# Altium schematic symbol library Planck-Pi-DK.SCHLIB: 40 symbols
Pins are listed as number, name and electrical type; pins without a type are passive.

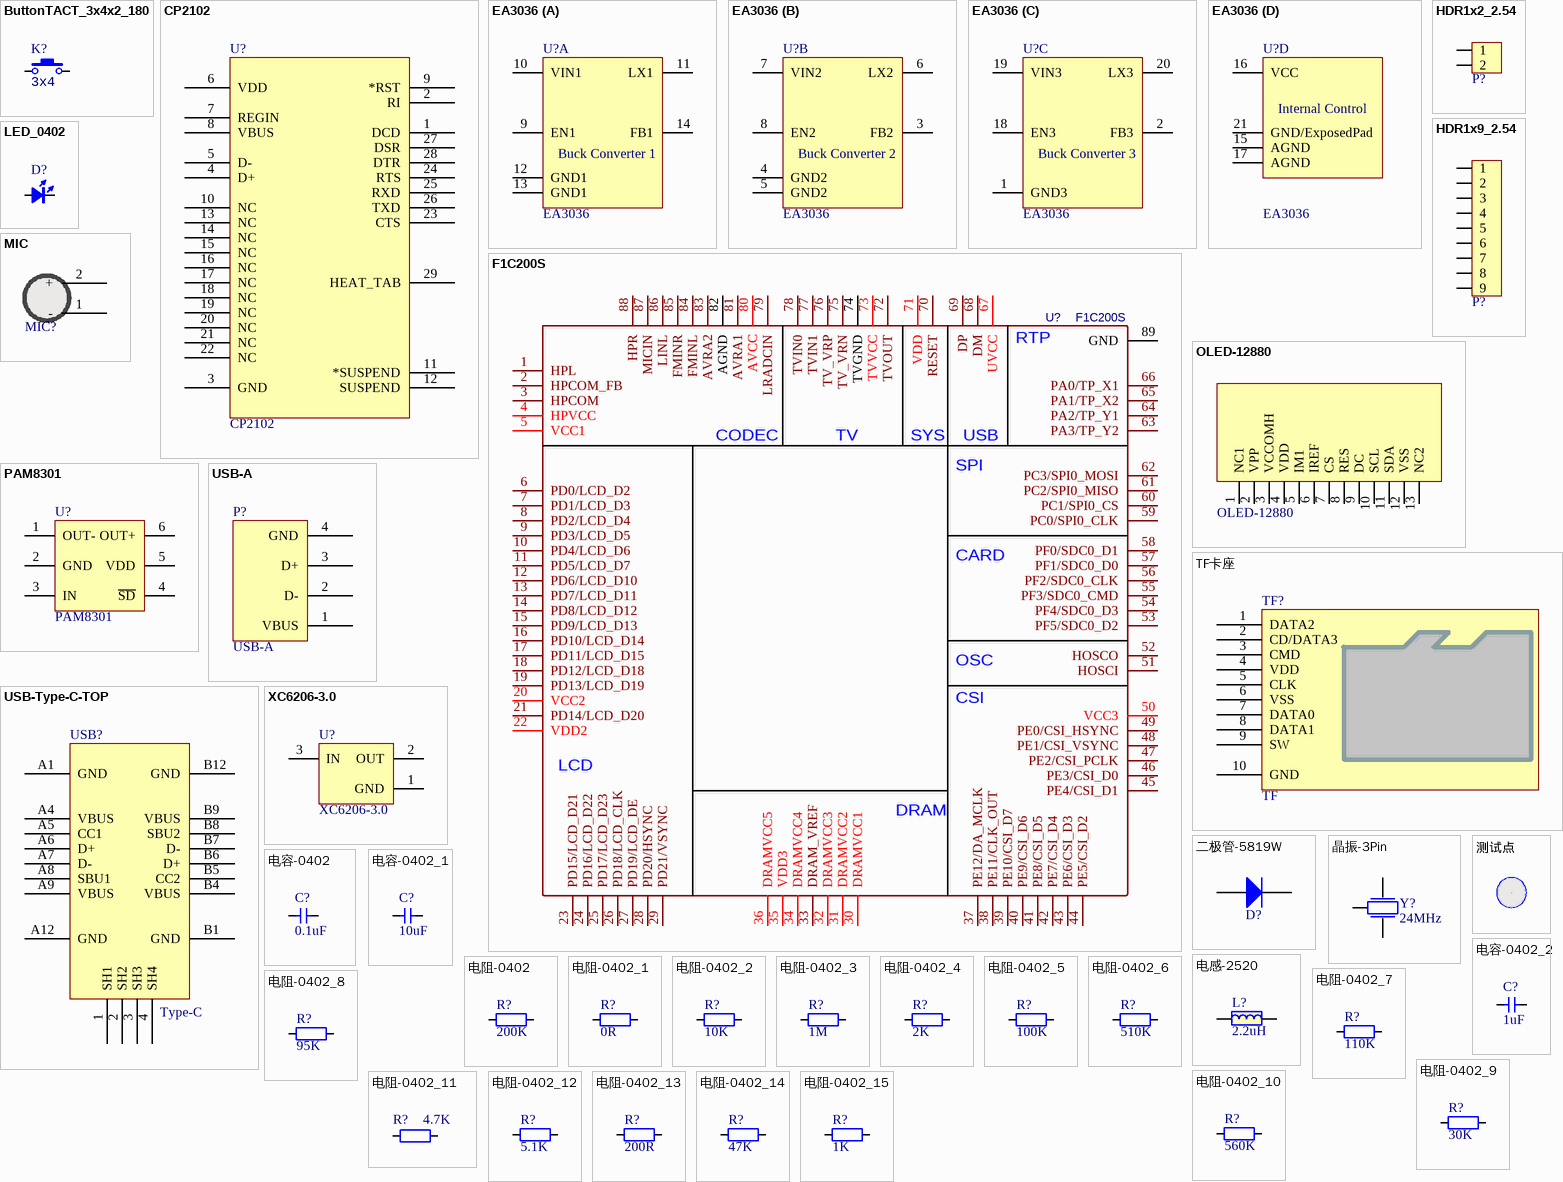
[diagram p0: symbols ButtonTACT_3x4x2_180 to 电阻-0402_15]

## ButtonTACT_3x4x2_180
designator K?, comment value 3x4  (hidden comment: TACT 2P)
Button; type: TACT 2P
footprint ButtonTACT_3x4x2_180
footprint ButtonTACT_3x4x2_180H
pins: 1, 2

## CP2102
designator U?
USB转TTL; PART DESC: SINGLE-CHIP USB TO UART BRIDGE, QFN28, RoHS.; MFG #1: SILICON LABS; PART NUMBER: CP2102; Value: Value; RefDes: RefDes; Type: DEV
footprint QFN-28
pins: 1 DCD, 2 RI, 3 GND, 4 D+, 5 D-, 6 VDD, 7 REGIN, 8 VBUS, 9 *RST, 10 NC, 11 *SUSPEND, 12 SUSPEND, 13 NC, 14 NC, 15 NC, 16 NC, 17 NC, 18 NC, 19 NC, 20 NC, 21 NC, 22 NC, 23 CTS, 24 RTS, 25 RXD, 26 TXD, 27 DSR, 28 DTR, 29 HEAT_TAB

## EA3036
designator U?
EA3036 is a 3CH power management IC for applications powered by one Li-Ion battery or a DC 5V adapter.
footprint QFN-20 (QFN, 20-Leads, Body 3.00x3.00mm, Pitch 0.40mm, Thermal Pad 1.65x1.65mm, IPC Medium Density)
part A pins: 9 EN1 "CH1 turns on/turns off control input. Don’t leave this pin floating.", 10 VIN1 (power) "Power input pin of CH1. Recommended to use a 10uF MLCC capacitor between VIN1 pin and GND1 pin.", 11 LX1 "Internal MOSFET switching output of CH1. Connect LX1 pin with a low pass filter circuit to obtain a stable DC output voltage.", 12 GND1 (power) "Power ground pin of CH1.", 13 GND1 (power) "Power ground pin of CH1.", 14 FB1 "Feedback input of CH1. Connect to output voltage with a resistor divider."
part B pins: 3 FB2 "Feedback input of CH2. Connect to output voltage with a resistor divider.", 4 GND2 (power) "Power ground pin of CH2.", 5 GND2 (power) "Power ground pin of CH2.", 6 LX2 "Internal MOSFET switching output of CH2. Connect LX2 pin with a low pass filter circuit to obtain a stable DC output voltage.", 7 VIN2 (power) "Power input pin of CH2. Recommended to use a 10uF MLCC capacitor between VIN2 pin and GND2 pin.", 8 EN2 "CH2 turns on/turns off control input. Don’t leave this pin floating."
part C pins: 1 GND3 (power) "Power ground pin of CH3.", 2 FB3 "Feedback input of CH3. Connect to output voltage with a resistor divider.", 18 EN3 "CH3 turns on/turns off control input. Don’t leave this pin floating.", 19 VIN3 (power) "Power input pin of CH3. Recommended to use a 10uF MLCC capacitor between VIN3 pin and GND3 pin.", 20 LX3 "Internal MOSFET switching output of CH3. Connect SW3 pin with a low pass filter circuit to obtain a stable DC output voltage."
part D pins: 15 AGND (power) "Analog ground pin.", 16 VCC (power) "Input supply pin for internal control circuit.", 17 AGND (power) "Analog ground pin.", 21 GND/ExposedPad (power) "The Exposed Pad must be soldered to a large PCB copper plane and connected to GND for appropriate dissipation."
part A text: Buck Converter 1
part B text: Buck Converter 2
part C text: Buck Converter 3
part D text: Internal Control

## F1C200S
designator U?
BOM_Manufacturer: Allwinner; Contributor: ChrisLan2018; BOM_Supplier: Allwinner; spicePre: U; spiceSymbolName: F1C200S
footprint QFN-88-0.4MM (QFN, 88-Leads, Body 10.00x10.00mm, Pitch 0.40mm, Thermal Pad 6.74x6.74mm, IPC Medium Density)
pins: 1 HPL, 2 HPCOM_FB, 3 HPCOM, 4 HPVCC, 5 VCC1, 6 PD0/LCD_D2, 7 PD1/LCD_D3, 8 PD2/LCD_D4, 9 PD3/LCD_D5, 10 PD4/LCD_D6, 11 PD5/LCD_D7, 12 PD6/LCD_D10, 13 PD7/LCD_D11, 14 PD8/LCD_D12, 15 PD9/LCD_D13, 16 PD10/LCD_D14, 17 PD11/LCD_D15, 18 PD12/LCD_D18, 19 PD13/LCD_D19, 20 VCC2, 21 PD14/LCD_D20, 22 VDD2, 23 PD15/LCD_D21, 24 PD16/LCD_D22, 25 PD17/LCD_D23, 26 PD18/LCD_CLK, 27 PD19/LCD_DE, 28 PD20/HSYNC, 29 PD21/VSYNC, 30 DRAMVCC1, 31 DRAMVCC2, 32 DRAMVCC3, 33 DRAM_VREF, 34 DRAMVCC4, 35 VDD3, 36 DRAMVCC5, 37 PE12/DA_MCLK, 38 PE11/CLK_OUT, 39 PE10/CSI_D7, 40 PE9/CSI_D6, 41 PE8/CSI_D5, 42 PE7/CSI_D4, 43 PE6/CSI_D3, 44 PE5/CSI_D2, 45 PE4/CSI_D1, 46 PE3/CSI_D0, 47 PE2/CSI_PCLK, 48 PE1/CSI_VSYNC, 49 PE0/CSI_HSYNC, 50 VCC3, 51 HOSCI, 52 HOSCO, 53 PF5/SDC0_D2, 54 PF4/SDC0_D3, 55 PF3/SDC0_CMD, 56 PF2/SDC0_CLK, 57 PF1/SDC0_D0, 58 PF0/SDC0_D1, 59 PC0/SPI0_CLK, 60 PC1/SPI0_CS, 61 PC2/SPI0_MISO, 62 PC3/SPI0_MOSI, 63 PA3/TP_Y2, 64 PA2/TP_Y1, 65 PA1/TP_X2, 66 PA0/TP_X1, 67 UVCC, 68 DM, 69 DP, 70 RESET, 71 VDD, 72 TVOUT, 73 TVVCC, 74 TVGND, 75 TV_VRN, 76 TV_VRP, 77 TVIN1, 78 TVIN0, 79 LRADCIN, 80 AVCC, 81 AVRA1, 82 AGND, 83 AVRA2, 84 FMINL, 85 FMINR, 86 LINL, 87 MICIN, 88 HPR, 89 GND
text: RTP; CODEC; TV; SYS; USB; SPI; CARD; OSC; CSI; LCD; DRAM

## HDR1x2_2.54
designator P?, comment DIP 1x2  (value not drawn)
Header; Value: 2.54; Type: DIP 1x2
footprint HDR1X2_2.54_90
footprint HDR1X2_2.54_90F
footprint HDR1X2_2.54_180
footprint HDR1X2_2.54_180F
footprint HDR1X2_2.54_180H
footprint HDR1X2_2.54_180HD
pins: 1, 2

## HDR1x9_2.54
designator P?, comment HDR1x9.54  (value not drawn)
Header
footprint HDR1X9_2.54_90 (Footprint not found)
footprint HDR1X9_2.54_90F (Footprint not found)
footprint HDR1X9_2.54_180
footprint HDR1X9_2.54_180F (Footprint not found)
pins: 1, 2, 3, 4, 5, 6, 7, 8, 9

## LED_0402
designator D?, comment color?  (value not drawn)
LED; Type: 0402; Value: color?
footprint LED_0402_RED
footprint LED_0402_BLUE
footprint LED_0402_ORANGE
footprint LED_0402_YELLOW
footprint LED_0402_GREEN
pins: 1 A, 2 K

## MIC
designator MIC?  (value not drawn)
footprint MIC
footprint MIC-0416
footprint MIC-SMT
pins: 1 -, 2 +

## OLED-12880
designator 1?
footprint OLED-12880
pins: 1 NC1, 2 VPP, 3 VCCOMH, 4 VDD, 5 IM1, 6 IREF, 7 CS, 8 RES, 9 DC, 10 SCL, 11 SDA, 12 VSS, 13 NC2

## PAM8301
designator U?
footprint SOT23-6 (SOT23, 5-Leads, Body 3.0x2.6mm (max), Pitch 0.95mm, IPC Medium Density)
pins: 1 OUT-, 2 GND, 3 IN, 4 ~{SD}, 5 VDD, 6 OUT+

## TF卡座
designator TF?, comment TF
8脚自弹
footprint TF-SOCKET
footprint TF-SOCKET - no hole
footprint TF-SOCKET - short
footprint TF-Card-Amphenol
footprint TF-Card-Amphenol with TF
pins: 1 DATA2, 2 CD/DATA3, 3 CMD, 4 VDD, 5 CLK, 6 VSS, 7 DATA0, 8 DATA1, 9 SW, 10 GND

## USB-A
designator P?
footprint USB-Short
pins: 1 VBUS, 2 D-, 3 D+, 4 GND

## USB-Type-C-TOP
designator USB?, comment Type-C
footprint Type-C-TOP
pins: 1 SH1, 2 SH2, 3 SH3, 4 SH4, A1 GND, A4 VBUS, A5 CC1, A6 D+, A7 D-, A8 SBU1, A9 VBUS, A12 GND, B1 GND, B4 VBUS, B5 CC2, B6 D+, B7 D-, B8 SBU2, B9 VBUS, B12 GND

## XC6206-3.0
designator U?
LDO
footprint SOT23-3 (SOT23, 3-Leads, Body 3.1x3.0mm (max), Pitch 0.95mm, IPC Medium Density)
pins: 1 GND, 2 OUT, 3 IN

## 二极管-5819W
designator D?  (value not drawn)
40V
footprint SOD-323
pins: 1 A, 2 K

## 晶振-3Pin
designator Y?, comment 24MHz
村田贴片
footprint 晶振-3P (贴片晶振)
footprint XTAL3*7
pins: 1, 2, 3

## 测试点
designator T?  (value not drawn)
footprint TEST_PT
pins: 0

## 电容-0402
designator C?, comment 0.1uF
Capacitor; Value: 0.1u
footprint CAP_0402
pins: 1, 2

## 电容-0402_1
designator C?, comment 10uF
Capacitor; Value: 0.1u
footprint CAP_0402
pins: 1, 2

## 电容-0402_2
designator C?, comment 1uF
Capacitor; Value: 0.1u
footprint CAP_0402
pins: 1, 2

## 电感-2520
designator L?, comment 2.2uH
磁珠
footprint 2520-L
pins: 1, 2

## 电阻-0402
designator R?, comment 200K
Resistor; Value: 22R
footprint RES_0402
pins: 1, 2

## 电阻-0402_1
designator R?, comment 0R
Resistor; Value: 22R
footprint RES_0402
pins: 1, 2

## 电阻-0402_2
designator R?, comment 10K
Resistor; Value: 22R
footprint RES_0402
pins: 1, 2

## 电阻-0402_3
designator R?, comment 1M
Resistor; Value: 22R
footprint RES_0402
pins: 1, 2

## 电阻-0402_4
designator R?, comment 2K
Resistor; Value: 22R
footprint RES_0402
pins: 1, 2

## 电阻-0402_5
designator R?, comment 100K
Resistor; Value: 22R
footprint RES_0402
pins: 1, 2

## 电阻-0402_6
designator R?, comment 510K
Resistor; Value: 22R
footprint RES_0402
pins: 1, 2

## 电阻-0402_7
designator R?, comment 110K
Resistor; Value: 22R
footprint RES_0402
pins: 1, 2

## 电阻-0402_8
designator R?, comment 95K
Resistor; Value: 22R
footprint RES_0402
pins: 1, 2

## 电阻-0402_9
designator R?, comment 30K
Resistor; Value: 22R
footprint RES_0402
pins: 1, 2

## 电阻-0402_10
designator R?, comment 560K
Resistor; Value: 22R
footprint RES_0402
pins: 1, 2

## 电阻-0402_11
designator R?, comment 4.7K
Resistor; Value: 22R
footprint RES_0402
pins: 1, 2

## 电阻-0402_12
designator R?, comment 5.1K
Resistor; Value: 22R
footprint RES_0402
pins: 1, 2

## 电阻-0402_13
designator R?, comment 200R
Resistor; Value: 22R
footprint RES_0402
pins: 1, 2

## 电阻-0402_14
designator R?, comment 47K
Resistor; Value: 22R
footprint RES_0402
pins: 1, 2

## 电阻-0402_15
designator R?, comment 1K
Resistor; Value: 22R
footprint RES_0402
pins: 1, 2

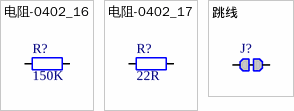
[diagram p1: symbols 电阻-0402_16 to 跳线]

## 电阻-0402_16
designator R?, comment 150K
Resistor; Value: 22R
footprint RES_0402
pins: 1, 2

## 电阻-0402_17
designator R?, comment 22R
Resistor; Value: 22R
footprint RES_0402
pins: 1, 2

## 跳线
designator J?  (value not drawn)
Resistor; Published: 8-Jun-2000; LatestRevisionDate: 17-Jul-2002; LatestRevisionNote: Re-released for DXP Platform.; PackageReference: AXIAL-0.4; Publisher: Altium Limited; PackageDescription: Axial Device, Thru-Hole; 2 Leads; 0.4 in Pin Spacing
footprint 0402-0R (选择焊盘)
pins: 1, 2